# Altium footprint library PCB - SWITCHES - DGI DSIC01LSGET.PcbLib: 1 footprints
Each footprint in its own frame and in the unit in brackets; x right, y up, seen from the top. Pads: shape width x height; smd on the part's side, far side on the other; paste and mask are expansions set on the pad; w line width, h text height; cw(c..) or ccw(c..) is an arc to the next point about the centre after c.
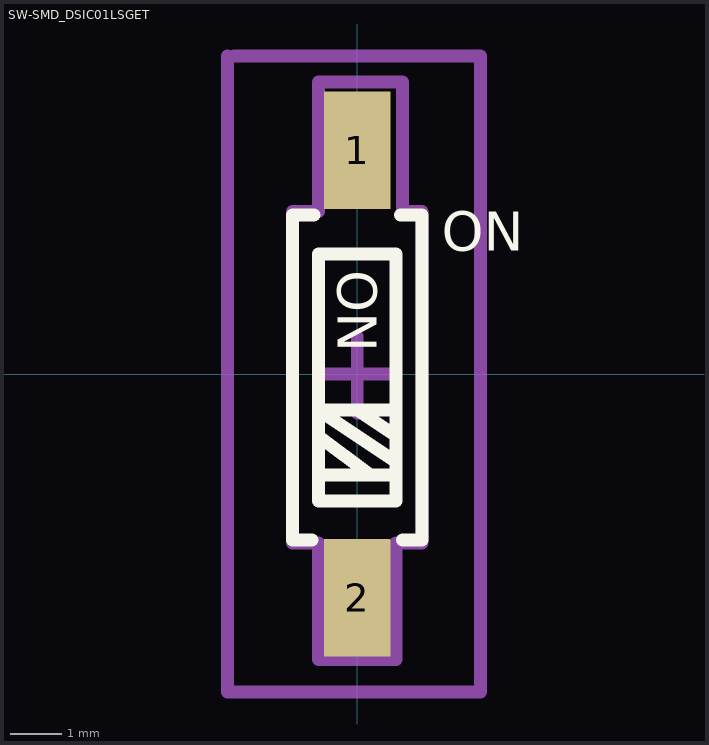
[diagram p0: the footprint, top view; thin cyan lines are the x and y axes]

## SW-SMD_DSIC01LSGET [mm]
pads (2):
  rect 1.3x2.3 smd: 1(0,4.375) 2(0,-4.375)
Top Overlay:
  lines w0.254: -0.881,-3.245 -1.27,-3.245 -1.27,3.105 -0.847,3.105 ; -0.762,-1.975 0.762,-1.975 ; -0.762,-1.213 0.254,-1.975 ; 0,-0.705 0.762,-1.213 ; 0.762,-1.721 -0.762,-0.705 0.762,-0.705 ; 0.847,3.105 1.27,3.105 1.27,-3.245 0.881,-3.245 ; -0.762,-2.483 -0.762,2.343 0.762,2.343 0.762,-2.483 -0.762,-2.483
  text "ON" at -0.381,2.032 h0.76
  text "ON" at 1.651,2.413 h0.76
Top Assembly:
  lines w0.254: -1.27,-3.302 -0.762,-3.302 -0.762,-5.588 0.762,-5.588 0.762,-3.302 1.27,-3.302 1.27,3.175 0.889,3.175 0.889,5.715 -0.762,5.715 -0.762,3.175 -1.27,3.175 -1.27,-3.302
Top Courtyard:
  lines w0.254: -2.54,6.223 -2.54,-6.223 2.413,-6.223 2.413,6.223 -2.413,6.223
Top Designator (Mech9):
  text ".Designator" at -2.385,2.125 h1
Top Component Center:
  lines w0.254: -0.762,0 0.738,0 ; 0,-0.762 0,0.738
3D body: height 2, standoff 0, extent -1.27,-4.648 1.27,4.648